# Altium footprint library General.PcbLib: 18 footprints (part 2 of 2)
Each footprint in its own frame and in the unit in brackets; x right, y up, seen from the top. Pads: shape width x height; smd on the part's side, far side on the other; paste and mask are expansions set on the pad; w line width, h text height; cw(c..) or ccw(c..) is an arc to the next point about the centre after c.
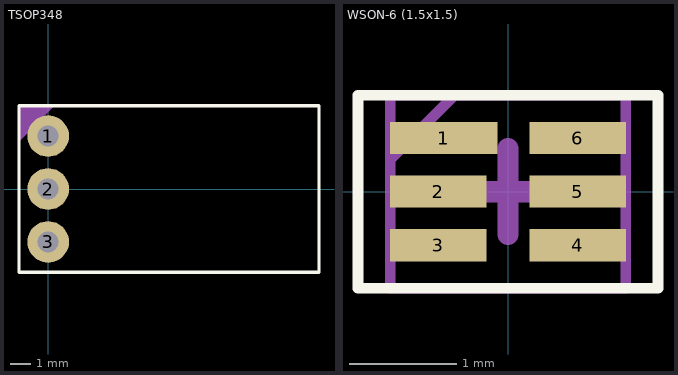
[diagram p1: the footprints below, top view; thin cyan lines are the x and y axes]

## TSOP348 [mm]
pads (3):
  round 2 hole 1: 1(0,2.54) 2(0,0) 3(0,-2.54)
Top Overlay:
  lines w0.153: -1.4,-4 -1.4,4 13,4 13,-4 -1.4,-4
  text "." at -1.967,2.533 h0.8
Top Assembly:
  region: -1.4,4 0.3,4 -1.4,2.3
  lines w0.1: -1.4,-4 -1.4,4 13,4 13,-4 -1.4,-4
  text "'.Designator'" at 1.768,-0.333 h0.8
Top Courtyard:
  lines w0.1: -0.3,0 0.3,0 ; 0,-0.3 0,0.3 ; -1.4,-4 -1.4,4 13,4 13,-4 -1.4,-4
3D body "User Library-IR reciver.step": height 1.57, standoff -6.22, extent -0.3,-3 12.805,3

## WSON-6 (1.5x1.5) [mm]
pads (6):
  rect 1x0.3 smd: 1(-0.6,0.5)
  rect 0.9x0.3 smd: 2(-0.65,0) 3(-0.65,-0.5) 4(0.65,-0.5) 5(0.65,0) 6(0.65,0.5)
Top Overlay:
  lines w0.1: -1.4,-0.9 1.4,-0.9 1.4,0.9 -1.4,0.9 -1.4,-0.9
  text "." at -1.947,0.753 h0.8
Top Assembly:
  lines w0.1: -1.1,0.3 -0.5,0.9 ; -1.1,-0.9 1.1,-0.9 1.1,0.9 -1.1,0.9 -1.1,-0.9
  text ".Designator" at -3.999,-0.267 h0.8
Top Courtyard:
  lines w0.1: -1.1,-0.9 -1.1,0.9 1.1,0.9 1.1,-0.9 -1.1,-0.9
  lines w0.2: -0.4,0 0.4,0 ; 0,-0.4 0,0.4
3D body: height 0.8, standoff 0, extent -0.8,-0.9 0.8,0.8